# Altium schematic symbol library SWITCH_TOGGLE_SPST.SchLib: 1 symbol
Pins are listed as number, name and electrical type; pins without a type are passive.

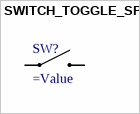
[diagram p0: symbol SWITCH_TOGGLE_SPST]

## SWITCH_TOGGLE_SPST
designator SW?
=Description
pins: 1, 2